# EAGLE library part CLP6C (library D-LED)
full-color SMD LEDs packaged in industry-standard PLCC6 package.
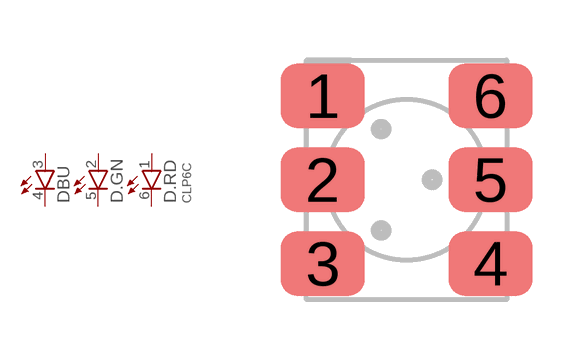
[diagram p1: symbol with the pads of PLCC6; footprint PLCC6]

Designator prefix D; gates .RD=LED-V .GN=LED-NV BU=LED-NV

## CLP6C  [PLCC6]
1  .RD:A  pas
2  .GN:A  pas
3  BU:A  pas
4  BU:K  pas
5  .GN:K  pas
6  .RD:K  pas

## Footprint PLCC6 (pad centres in mm)
PLCC6 6MM x 5MM 2.1MM pitch 4.2MM C-C across
smd 2.1 x 1.6: 1 -2.1,2.1; 2 -2.1,0; 3 -2.1,-2.1; 4 2.1,-2.1; 5 2.1,0; 6 2.1,2.1